# EAGLE library part ESP32_C3_NODEMCU (library ESP32_C3_NodeMCU)
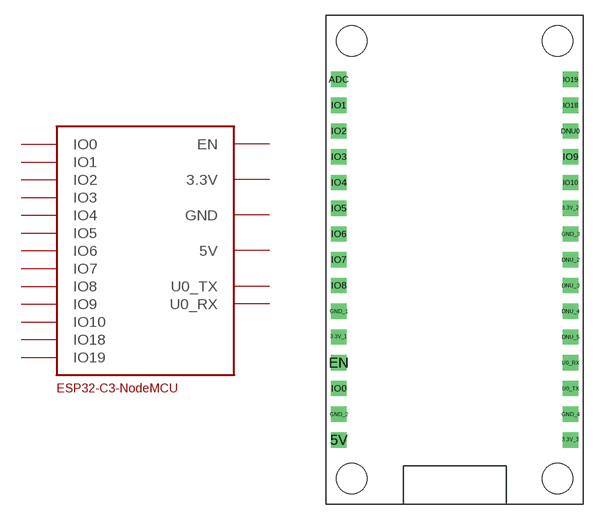
[diagram p0: symbol with the pads of ESP32_C3_NODEMCU; footprint ESP32_C3_NODEMCU]

Designator prefix -

## ESP32_C3_NODEMCU  [ESP32_C3_NODEMCU]
3.3V_1  3.3V  pwr
3.3V_2  3.3V  pwr
3.3V_3  3.3V  pwr
5V  5V  pwr
EN  EN
GND_1  GND  pwr
GND_2  GND  pwr
GND_3  GND  pwr
GND_4  GND  pwr
IO0  IO0
IO1  IO1
IO2  IO2
IO3  IO3
IO4  IO4
IO5  IO5
IO6  IO6
IO7  IO7
IO8  IO8
IO9  IO9
IO10  IO10
IO18  IO18
IO19  IO19
U0_RX  U0_RX
U0_TX  U0_TX

## Footprint ESP32_C3_NODEMCU (pad centres in mm)
drill 1 square: 3.3V_1 -11.43,-7.62; 3.3V_2 11.43,5.08; 3.3V_3 11.43,-17.78; 5V -11.43,-17.78; ADC -11.43,17.78; DNU0 11.43,12.7; DNU_2 11.43,0; DNU_3 11.43,-2.54; DNU_4 11.43,-5.08; DNU_5 11.43,-7.62; EN -11.43,-10.16; GND_1 -11.43,-5.08; GND_2 -11.43,-15.24; GND_3 11.43,2.54; GND_4 11.43,-15.24; IO0 -11.43,-12.7; IO1 -11.43,15.24; IO2 -11.43,12.7; IO3 -11.43,10.16; IO4 -11.43,7.62; IO5 -11.43,5.08; IO6 -11.43,2.54; IO7 -11.43,0; IO8 -11.43,-2.54; IO9 11.43,10.16; IO10 11.43,7.62; IO18 11.43,15.24; IO19 11.43,17.78; U0_RX 11.43,-10.16; U0_TX 11.43,-12.7
hole 3 at -10.16,21.59
hole 3 at 10.16,21.59
hole 3 at -10.16,-21.59
hole 3 at 10.16,-21.59